# Altium schematic symbol library Silicon Labs.SchLib: 1 symbol
Pins are listed as number, name and electrical type; pins without a type are passive.

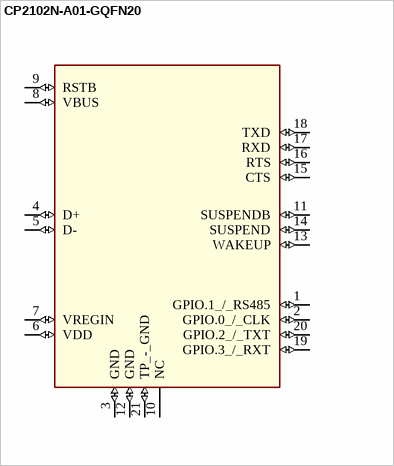
[diagram p0: symbol CP2102N-A01-GQFN20]

## CP2102N-A01-GQFN20
designator IC?, comment SILICON LABS - CP2102N-A01-GQFN20 - USB-UART INTERFACE BRIDGE, QFN-20Source:  Datasheet
GateName_1: G$1; SymbolName_1: CP2102N-A01-GQFN20; LibraryName: CP2102N-A01-GQFN20; DeviceSetName: CP2102N-A01-GQFN20; Package: CPT007BA02GMR; Mouser_Part_Number: 634-CP2102NA01GQFN20; Mouser_Price-Stock: https://www.mouser.com/Search/Refine.aspx?Keyword=634-CP2102NA01GQFN20; Manufacturer_Name: Silicon Labs; Manufacturer_Part_Number: CP2102N-A01-GQFN20; Height: mm
footprint QFN20
pins: 1 GPIO.1_/_RS485 (io), 2 GPIO.0_/_CLK (io), 3 GND (io), 4 D+ (io), 5 D- (io), 6 VDD (io), 7 VREGIN (io), 8 VBUS (io), 9 RSTB (io), 10 NC, 11 SUSPENDB (io), 12 GND (io), 13 WAKEUP (io), 14 SUSPEND (io), 15 CTS (io), 16 RTS (io), 17 RXD (io), 18 TXD (io), 19 GPIO.3_/_RXT (io), 20 GPIO.2_/_TXT (io), 21 TP_-_GND (io)